# EAGLE library part AT42QT1011-TSHR (library Deegou_IC)
Single Key Touch Sensor IC no reset AT42QT1011-TSHR, Spread-Spectrum Charge-Transfer Touch Screen Controller, 14 bit, 6-Pin SOT-23 Source: Datasheet <http://www.atmel.com/images/atmel-9542-at42-qtouch-bsw-at42qt1011_datasheet.pdf>
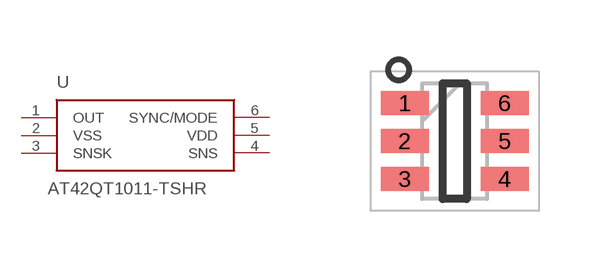
[diagram p26: symbol with the pads of SOT95P280X145-6N; footprint SOT95P280X145-6N]

Designator prefix U

## AT42QT1011-TSHR (DESCRIPTION: Single Key Touch Sensor IC no reset AT42QT1011-TSHR, Spread-Spectrum Charge-Transfer Touch Screen Controller, 14 bit, 6-Pin SOT-23; HEIGHT: 1.45mm; MANUFACTURER_NAME: Microchip; MANUFACTURER_PART_NUMBER: AT42QT1011-TSHR; MOUSER_PART_NUMBER: 556-AT42QT1011-TSHR; MOUSER_PRICE-STOCK: https://www.mouser.com/Search/Refine.aspx?Keyword=556-AT42QT1011-TSHR; RS_PART_NUMBER: 1276596; RS_PRICE-STOCK: http://uk.rs-online.com/web/p/products/1276596)  [SOT95P280X145-6N]
1  OUT  out
2  VSS  pwr
3  SNSK
4  SNS
5  VDD  pwr
6  SYNC/MODE

## Footprint SOT95P280X145-6N (pad centres in mm)
6-pin SOT23-6 (6ST1)
smd 1.2 x 0.6: 1 -1.25,0.95; 2 -1.25,0; 3 -1.25,-0.95; 4 1.25,-0.95; 5 1.25,0; 6 1.25,0.95